# Altium footprint library Lightsaber PCB Library.PcbLib: 24 footprints (part 2 of 2)
Each footprint in its own frame and in the unit in brackets; x right, y up, seen from the top. Pads: shape width x height; smd on the part's side, far side on the other; paste and mask are expansions set on the pad; w line width, h text height; cw(c..) or ccw(c..) is an arc to the next point about the centre after c.
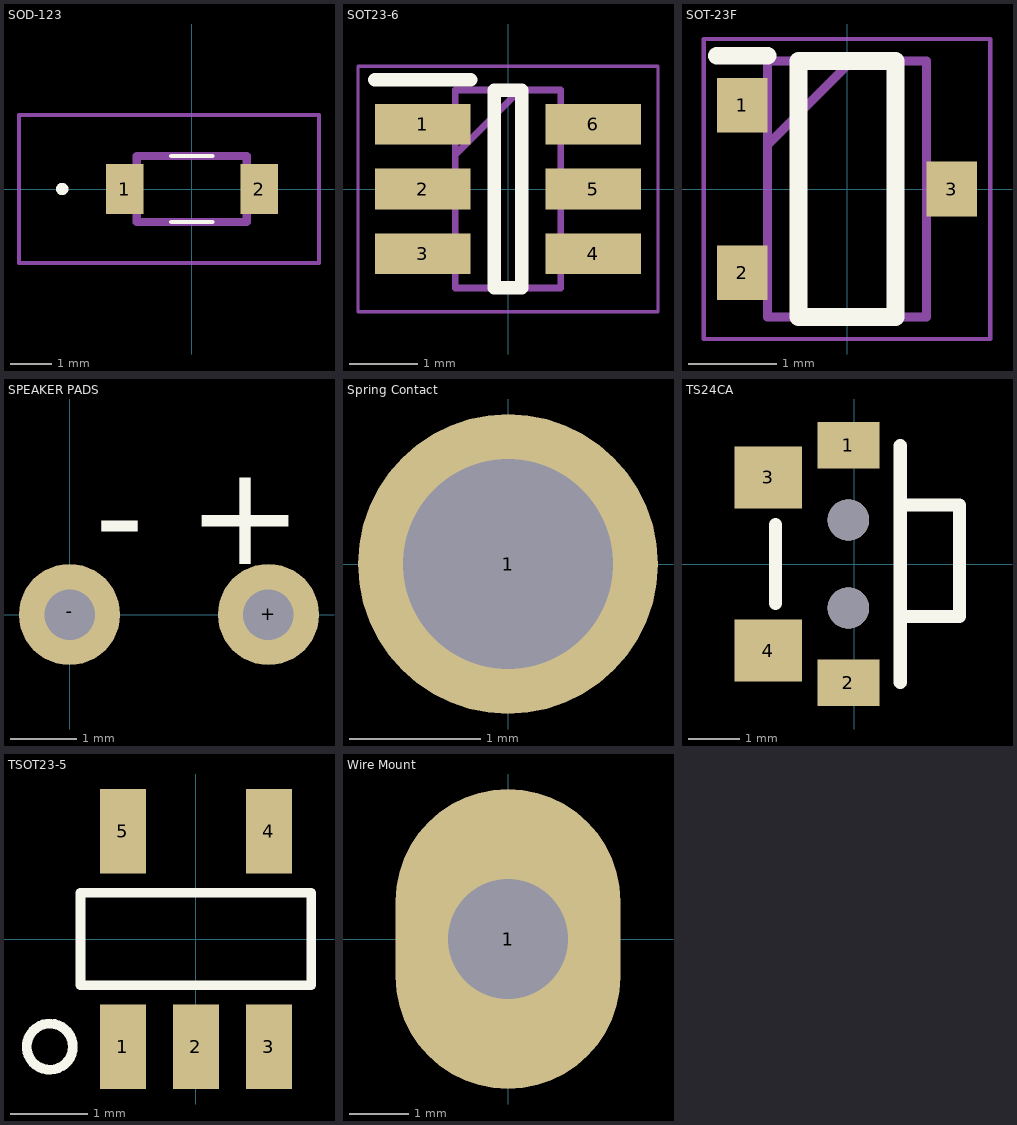
[diagram p1: the footprints below, top view; thin cyan lines are the x and y axes]

## SOD-123 [mm]
pads (2):
  rect 0.91x1.22 smd: 1(-1.635,0) 2(1.635,0)
Top Overlay:
  lines w0.1: -0.5,-0.8 0.5,-0.8 -0.5,-0.8 ; -0.5,0.8 0.5,0.8 -0.5,0.8
  lines w0.2: -3.2,0 ccw(c-3.15,0) -3.1,0 ; -3.2,0 cw(c-3.15,0) -3.1,0 ; -3.2,0 ccw(c-3.15,0) -3.1,0
Mechanical 13:
  lines w0.2: -1.338,-0.8 1.337,-0.8 1.337,0.8 -1.338,0.8 -1.338,-0.8
Mechanical 15:
  lines w0.1: -4.2,-1.8 3.09,-1.8 3.09,1.8 -4.2,1.8 -4.2,-1.8
3D body "BZT52-B5V1J.stp": height 1.4, standoff 0, extent -1.999,-0.8 1.999,0.8

## SOT23-6 [mm]
pads (6):
  rect 1.4x0.6 smd: 1(-1.25,0.95) 2(-1.25,0) 3(-1.25,-0.95) 4(1.25,-0.95) 5(1.25,0) 6(1.25,0.95)
Top Overlay:
  lines w0.2: -1.95,1.6 -0.55,1.6 ; -0.2,-1.45 0.2,-1.45 0.2,1.45 -0.2,1.45 -0.2,-1.45
Mechanical 13:
  lines w0.1: -0.775,0.5 0.175,1.45 ; -0.775,-1.45 0.775,-1.45 0.775,1.45 -0.775,1.45 -0.775,-1.45
Mechanical 15:
  lines w0.05: -2.2,-1.8 2.2,-1.8 2.2,1.8 -2.2,1.8 -2.2,-1.8
3D body "PIC10F200T-E_OT.stp": height 1.45, standoff 0, extent -1.35,-1.45 1.35,1.45

## SOT-23F [mm]
pads (3):
  rect 0.575x0.62 smd: 1(-1.188,0.95) 2(-1.188,-0.95) 3(1.188,0)
Top Overlay:
  lines w0.2: -1.475,1.51 -0.9,1.51 ; -0.55,-1.45 0.55,-1.45 0.55,1.45 -0.55,1.45 -0.55,-1.45
Mechanical 13:
  lines w0.1: -0.9,0.5 0.05,1.45 ; -0.9,-1.45 0.9,-1.45 0.9,1.45 -0.9,1.45 -0.9,-1.45
Mechanical 15:
  lines w0.05: -1.625,-1.7 1.625,-1.7 1.625,1.7 -1.625,1.7 -1.625,-1.7
3D body "SSM3J328R,LF.stp": height 0.88, standoff 0, extent -1.2,-1.45 1.2,1.45

## SPEAKER PADS [mil]
pads (2):
  round 60 hole 30: +(118.11,0) -(0,0)
Top Overlay:
  text "-" at 15,30 h60
  text "+" at 70,30 h60
3D body "22AWG Wire v2.step": height 76.97, standoff -32.23, extent -32.39,-15 152.39,448.99

## Spring Contact [mil]
pads (1):
  round 90 hole 63 paste+0 mask+10: 1(0,0)
3D body "Spring Contact STEP.step": height 173.21, standoff -82.7, extent -39.22,-39.29 39.21,39.29

## TS24CA [mm]
pads (6):
  rect 1.2x0.9 smd: 1(-0.114,2.3) 2(-0.114,-2.3)
  rect 1.3x1.2 smd: 3(-1.664,1.675) 4(-1.664,-1.675)
  round 0.8 hole 0.8 unplated paste+0 mask+0.102: ""(-0.114,-0.85) ""(-0.114,0.85)
Top Overlay:
  region: -0.381,0.762
  lines w0.254: -1.524,-0.762 -1.524,0.762 ; 0.889,-2.286 0.889,2.286 ; 0.889,-1.016 1.079,-1.016 1.651,-1.016 2.032,-1.016 2.032,1.143 0.889,1.143
3D body "PTS840GMSMTRLFS.stp": height 1.45, standoff 0, extent -1.9,-2.395 2.1,2.395

## TSOT23-5 [mm]
pads (5):
  rect 0.6x1.1 smd: 1(-0.95,-1.4) 2(0,-1.4) 3(0.95,-1.4) 4(0.95,1.4) 5(-0.95,1.4)
Top Overlay:
  circle w0.127: c-1.9,-1.4 r0.3
  lines w0.127: -1.5,-0.6 -1.5,0.6 1.5,0.6 1.5,-0.6 -1.5,-0.6
3D body "PIC10F200T-E_OT.stp": height 1.45, standoff 0, extent -1.45,-1.35 1.45,1.35

## Wire Mount [mil]
pads (1):
  oval 150x200 hole 80: 1(0,0)